# Altium schematic symbol library AS6C1008-55PCN.SchLib: 1 symbol
Pins are listed as number, name and electrical type; pins without a type are passive.

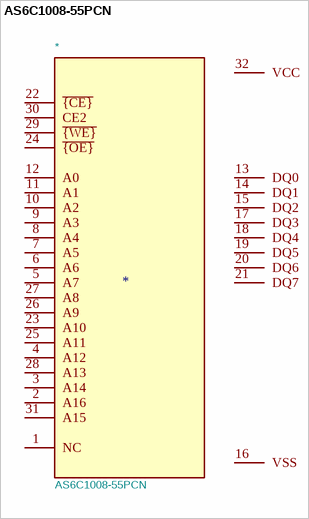
[diagram p0: symbol AS6C1008-55PCN]

## AS6C1008-55PCN
designator *  value AS6C1008-55PCN
MANUFACTURER: Alliance Memory, Inc.; SNAPEDA_PACKAGE_ID: 10893; Footprint: AS6C1008-55PCN:DIP1524W45P254L4191H419Q32; MAXIMUM_PACKAGE_HEIGHT: 4.191 mm; STANDARD: IPC 7351B; PARTREV: v1.0; SNAPEDA_PN: AS6C1008-55PCN
footprint DIP1524W45P254L4191H419Q32
pins: 1 NC, 2 A16, 3 A14, 4 A12, 5 A7, 6 A6, 7 A5, 8 A4, 9 A3, 10 A2, 11 A1, 12 A0, 13 DQ0, 14 DQ1, 15 DQ2, 16 VSS, 17 DQ3, 18 DQ4, 19 DQ5, 20 DQ6, 21 DQ7, 22 ~{{CE}}, 23 A10, 24 ~{{OE}}, 25 A11, 26 A9, 27 A8, 28 A13, 29 ~{{WE}}, 30 CE2, 31 A15, 32 VCC